# EAGLE library part ULN2003D1013TR (library Transistors)
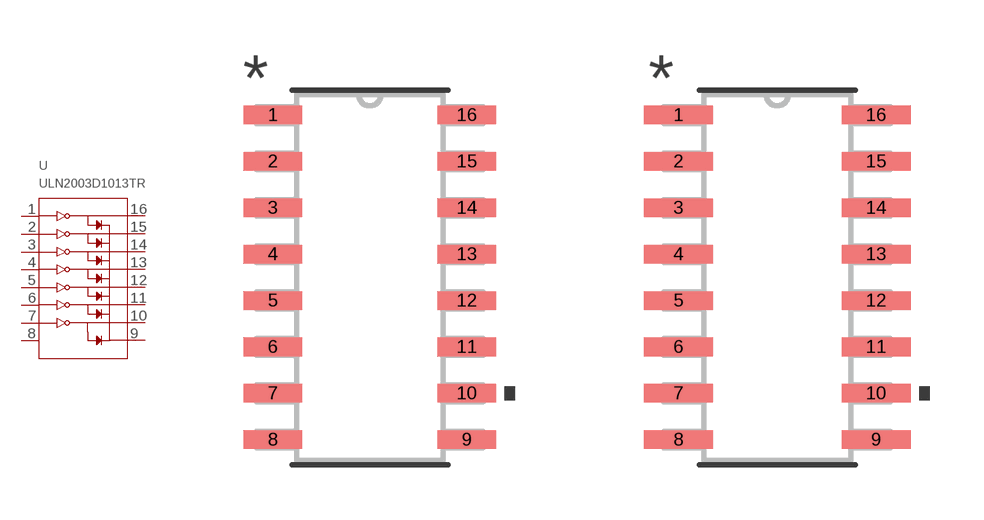
[diagram p0: symbol with the pads of SO-16_STM-N; footprints SO-16_STM-N, SO-16_STM-M]

Designator prefix U

## ULN2003D1013TRSO-16_STM-N (BUILT_BY: EMA_UL_Team; MANUFACTURER_PART_NUMBER: ULN2003D1013TR; SOURCELIBRARY: StMicro_2011-06-07; VENDOR: STMicroelectronics)  [SO-16_STM-N]
1  IN1  in
2  IN2  in
3  IN3  in
4  IN4  in
5  IN5  in
6  IN6  in
7  IN7  in
8  GND  pwr
9  COMMON_FREE_WHEELING_DIODES  pas
10  OUT7  out
11  OUT6  out
12  OUT5  out
13  OUT4  out
14  OUT3  out
15  OUT2  out
16  OUT1  out

## ULN2003D1013TRSO-16_STM-M (BUILT_BY: EMA_UL_Team; MANUFACTURER_PART_NUMBER: ULN2003D1013TR; SOURCELIBRARY: StMicro_2011-06-07; VENDOR: STMicroelectronics)  [SO-16_STM-M]
Pads as for SO-16_STM-N

## ULN2003D1013TRSO-16_STM-L (BUILT_BY: EMA_UL_Team; MANUFACTURER_PART_NUMBER: ULN2003D1013TR; SOURCELIBRARY: StMicro_2011-06-07; VENDOR: STMicroelectronics)  [SO-16_STM-L]
Pads as for SO-16_STM-N

## Footprint SO-16_STM-N (pad centres in mm)
smd 1.589 x 0.507: 1 -2.654,4.445; 2 -2.654,3.175; 3 -2.654,1.905; 4 -2.654,0.635; 5 -2.654,-0.635; 6 -2.654,-1.905; 7 -2.654,-3.175; 8 -2.654,-4.445; 9 2.654,-4.445; 10 2.654,-3.175; 11 2.654,-1.905; 12 2.654,-0.635; 13 2.654,0.635; 14 2.654,1.905; 15 2.654,3.175; 16 2.654,4.445

## Footprint SO-16_STM-M (pad centres in mm)
smd 1.889 x 0.507: 1 -2.704,4.445; 2 -2.704,3.175; 3 -2.704,1.905; 4 -2.704,0.635; 5 -2.704,-0.635; 6 -2.704,-1.905; 7 -2.704,-3.175; 8 -2.704,-4.445; 9 2.704,-4.445; 10 2.704,-3.175; 11 2.704,-1.905; 12 2.704,-0.635; 13 2.704,0.635; 14 2.704,1.905; 15 2.704,3.175; 16 2.704,4.445

## Footprint SO-16_STM-L (pad centres in mm)
smd 1.289 x 0.457: 1 -2.604,4.445; 2 -2.604,3.175; 3 -2.604,1.905; 4 -2.604,0.635; 5 -2.604,-0.635; 6 -2.604,-1.905; 7 -2.604,-3.175; 8 -2.604,-4.445; 9 2.604,-4.445; 10 2.604,-3.175; 11 2.604,-1.905; 12 2.604,-0.635; 13 2.604,0.635; 14 2.604,1.905; 15 2.604,3.175; 16 2.604,4.445